# EAGLE library part PCIE_64 (library pcie)
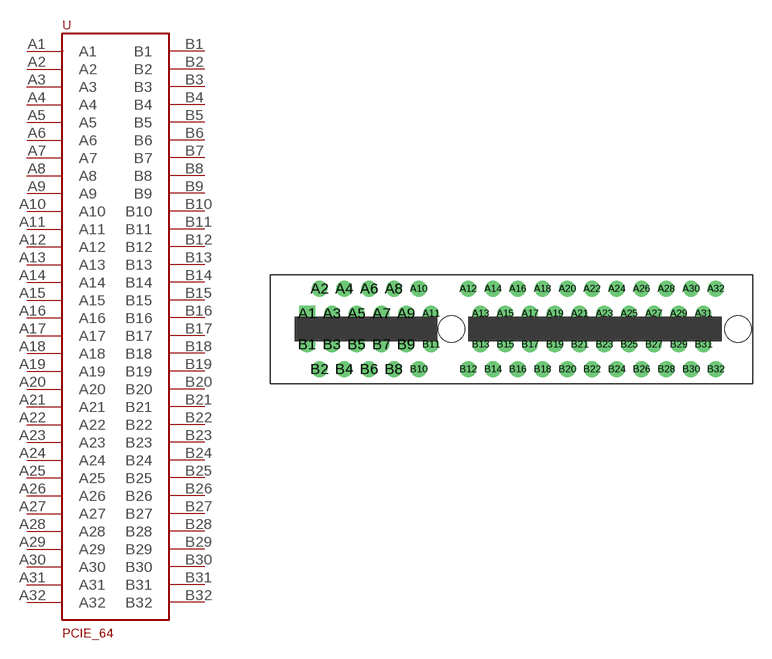
[diagram p3: symbol with the pads of PCI-E_64; footprint PCI-E_64]

Designator prefix -

## PCIE_64  [PCI-E_64]
A1  A1
A2  A2
A3  A3
A4  A4
A5  A5
A6  A6
A7  A7
A8  A8
A9  A9
A10  A10
A11  A11
A12  A12
A13  A13
A14  A14
A15  A15
A16  A16
A17  A17
A18  A18
A19  A19
A20  A20
A21  A21
A22  A22
A23  A23
A24  A24
A25  A25
A26  A26
A27  A27
A28  A28
A29  A29
A30  A30
A31  A31
A32  A32
B1  B1
B2  B2
B3  B3
B4  B4
B5  B5
B6  B6
B7  B7
B8  B8
B9  B9
B10  B10
B11  B11
B12  B12
B13  B13
B14  B14
B15  B15
B16  B16
B17  B17
B18  B18
B19  B19
B20  B20
B21  B21
B22  B22
B23  B23
B24  B24
B25  B25
B26  B26
B27  B27
B28  B28
B29  B29
B30  B30
B31  B31
B32  B32

## Footprint PCI-E_64 (pad centres in mm)
Pinouts of 10018784-10212TLF at Mouser <https://www.mouser.com/ProductDetail/Amphenol-FCI/10018784-10212TLF?qs=%2fha2pyFadujfS0UOPHjDeQB4COia7gvWg1oV3AgxHkEAjbu8GU%2ft8w%3d%3d>
drill 0.7 pad 1.27 square: A1 -11.616,1.271
drill 0.7 pad 1.27: A2 -10.616,3.271; A3 -9.616,1.271; A4 -8.616,3.271; A5 -7.615,1.271; A6 -6.615,3.271; A7 -5.615,1.271; A8 -4.615,3.271; A9 -3.615,1.271; A10 -2.615,3.271; A11 -1.615,1.271; A12 1.385,3.271; A13 2.385,1.271; A14 3.385,3.271; A15 4.385,1.271; A16 5.385,3.271; A17 6.385,1.271; A18 7.385,3.271; A19 8.384,1.271; A20 9.384,3.271; A21 10.384,1.271; A22 11.384,3.271; A23 12.384,1.271; A24 13.384,3.271; A25 14.384,1.271; A26 15.384,3.271; A27 16.384,1.271; A28 17.384,3.271; A29 18.384,1.271; A30 19.384,3.271; A31 20.384,1.271; A32 21.384,3.271; B1 -11.616,-1.229; B2 -10.616,-3.229; B3 -9.616,-1.229; B4 -8.616,-3.229; B5 -7.615,-1.229; B6 -6.615,-3.229; B7 -5.615,-1.229; B8 -4.615,-3.229; B9 -3.615,-1.229; B10 -2.615,-3.229; B11 -1.615,-1.229; B12 1.385,-3.229; B13 2.385,-1.229; B14 3.385,-3.229; B15 4.385,-1.229; B16 5.385,-3.229; B17 6.385,-1.229; B18 7.385,-3.229; B19 8.384,-1.229; B20 9.384,-3.229; B21 10.384,-1.229; B22 11.384,-3.229; B23 12.384,-1.229; B24 13.384,-3.229; B25 14.384,-1.229; B26 15.384,-3.229; B27 16.384,-1.229; B28 17.384,-3.229; B29 18.384,-1.229; B30 19.384,-3.229; B31 20.384,-1.229; B32 21.384,-3.229
hole 2.15 at 0.035,0.021
hole 2.15 at 23.184,0.021